# EAGLE library part ADP7158ARDZ-3.3-R7 (library ADP7158ARDZ-3.3-R7)
LDO Voltage Regulators 3.3/5Vin 1.2A Ultra Low Noise LDO Fixed Source: Datasheet <https://componentsearchengine.com/Datasheets/1/ADP7158ARDZ-3.3-R7.pdf>
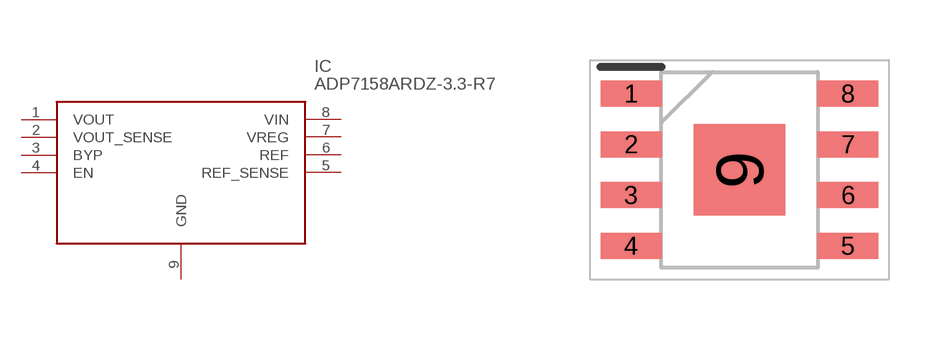
[diagram p0: symbol with the pads of SOIC127P600X175-9N; footprint SOIC127P600X175-9N]

Designator prefix IC

## ADP7158ARDZ-3.3-R7 (Arrow_Part_Number: ADP7158ARDZ-3.3-R7; Arrow_Price-Stock: https://www.arrow.com/en/products/adp7158ardz-3.3-r7/analog-devices?utm_currency=USD&region=nac; Description: LDO Voltage Regulators 3.3/5Vin 1.2A Ultra Low Noise LDO Fixed; Height: 1.75mm; Manufacturer_Name: Analog Devices; Manufacturer_Part_Number: ADP7158ARDZ-3.3-R7; Mouser_Part_Number: 584-ADP7158ARDZ3.3R7; Mouser_Price-Stock: https://www.mouser.co.uk/ProductDetail/Analog-Devices/ADP7158ARDZ-3.3-R7?qs=JeIcUl65ClBbLSN64Y7owQ%3D%3D)  [SOIC127P600X175-9N]
1  VOUT  out
2  VOUT_SENSE
3  BYP
4  EN  in
5  REF_SENSE
6  REF
7  VREG
8  VIN  pwr
9  GND

## Footprint SOIC127P600X175-9N (pad centres in mm)
SOIC_N_EP
smd 1.525 x 0.65: 1 -2.712,1.905; 2 -2.712,0.635; 3 -2.712,-0.635; 4 -2.712,-1.905; 5 2.712,-1.905; 6 2.712,-0.635; 7 2.712,0.635; 8 2.712,1.905
smd 2.29 x 2.29: 9 0,0